# Altium schematic symbol library h1102nl.SchLib: 1 symbol
Pins are listed as number, name and electrical type; pins without a type are passive.

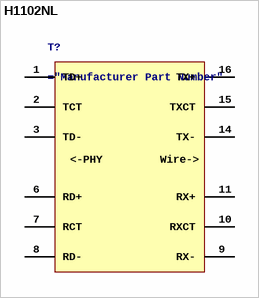
[diagram p0: symbol H1102NL]

## H1102NL
designator T?
MODULE XFRMR SGL ETHR LAN 16SOIC
pins: 1 TD+, 2 TCT, 3 TD-, 6 RD+, 7 RCT, 8 RD-, 9 RX-, 10 RXCT, 11 RX+, 14 TX-, 15 TXCT, 16 TX+
text: <-PHY; Wire->